# EAGLE library part DAC8760 (library texas)
DAC Single-Channel, 16-Bit Programmable Current Output and Voltage Output Digital-to-Analog Converters for 4-mA to 20-mA Current Loop Applications
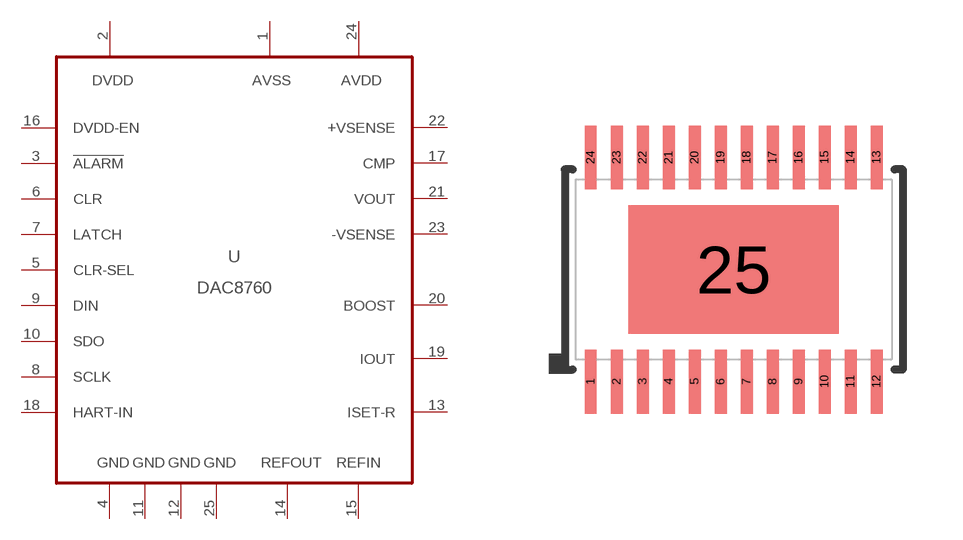
[diagram p87: symbol with the pads of HTSSOP24-P; footprint HTSSOP24-P]

Designator prefix U

## DAC8760  [HTSSOP24-P]
1  AVSS  pwr
2  DVDD  pwr
3  !ALARM!  oc
4  GND  pwr
5  CLR-SEL  in
6  CLR  in
7  LATCH  in
8  SCLK  in
9  DIN  in
10  SDO  oc
11  GND  pwr
12  GND  pwr
13  ISET-R
14  REFOUT  in
15  REFIN  in
16  DVDD-EN
17  CMP  pas
18  HART-IN
19  IOUT  out
20  BOOST  pas
21  VOUT  pas
22  +VSENSE  pas
23  -VSENSE  pas
24  AVDD  pwr
25  GND  pwr

## Footprint HTSSOP24-P (pad centres in mm)
HTSSOP24 PowerPAD (R-PDSO-G24) pitch 0.635 mm, body 4.5 mm x 7.9 mm
smd 0.3 x 1.6: 1 -3.575,-2.8; 2 -2.925,-2.8; 3 -2.275,-2.8; 4 -1.625,-2.8; 5 -0.975,-2.8; 6 -0.325,-2.8; 7 0.325,-2.8; 8 0.975,-2.8; 9 1.625,-2.8; 10 2.275,-2.8; 11 2.925,-2.8; 12 3.575,-2.8; 13 3.575,2.8; 14 2.925,2.8; 15 2.275,2.8; 16 1.625,2.8; 17 0.975,2.8; 18 0.325,2.8; 19 -0.325,2.8; 20 -0.975,2.8; 21 -1.625,2.8; 22 -2.275,2.8; 23 -2.925,2.8; 24 -3.575,2.8
smd 5.26 x 3.2: 25 0,0